# EAGLE library part LTC3631EDD-3.3PBF (library squirrel)
Step-Down Converter
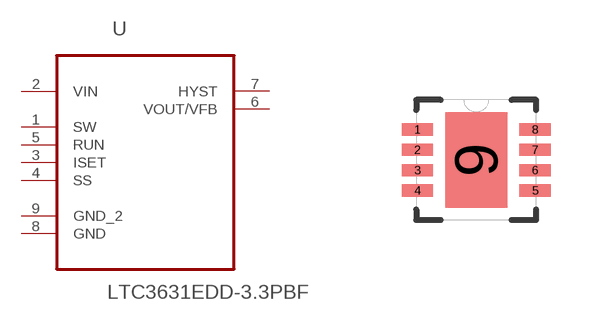
[diagram p9: symbol with the pads of DFN300X300X80-9N; footprint DFN300X300X80-9N]

Designator prefix U

## LTC3631EDD-3.3PBF (MPN: LTC3631EDD-3.3#PBF; OC_FARNELL: -; OC_NEWARK: 24R8665; PACKAGE: DFN-8; SUPPLIER: Linear Technology)  [DFN300X300X80-9N]
1  SW  pas
2  VIN  pwr
3  ISET  in
4  SS  in
5  RUN  in
6  VOUT/VFB  out
7  HYST  out
8  GND  pas
9  GND_2  pas

## Footprint DFN300X300X80-9N (pad centres in mm)
smd 0.787 x 0.305: 1 -1.473,0.762; 2 -1.473,0.254; 3 -1.473,-0.254; 4 -1.473,-0.762; 5 1.473,-0.762; 6 1.473,-0.254; 7 1.473,0.254; 8 1.473,0.762
smd 1.549 x 2.388: 9 0,0